# EAGLE library part LT1762 (library EW_voltage_regulators)
LT1792 voltage regulator
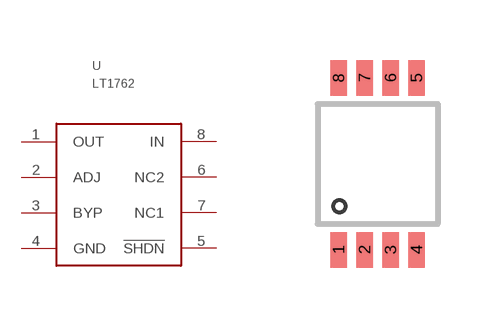
[diagram p3: symbol with the pads of MS8; footprint MS8]

Designator prefix U

## LT1762  [MS8]
1  OUT
2  ADJ
3  BYP
4  GND
5  !SHDN
6  NC2
7  NC1
8  IN

## Footprint MS8 (pad centres in mm)
smd 0.42 x 0.889: 1 -0.975,-2.15; 2 -0.325,-2.15; 3 0.325,-2.15; 4 0.975,-2.15; 5 0.975,2.15; 6 0.325,2.15; 7 -0.325,2.15; 8 -0.975,2.15